# Altium schematic symbol library ANALOG_SWITCH(1.8-5V,1-1, 3Ohm, SPST, SOT23-6).SchLib: 1 symbol
Pins are listed as number, name and electrical type; pins without a type are passive.

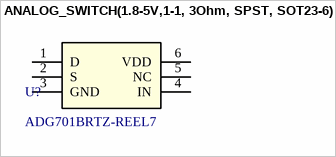
[diagram p0: symbol ANALOG_SWITCH(1.8-5V,1-1, 3Ohm, SPST, SOT23-6)]

## ANALOG_SWITCH(1.8-5V,1-1, 3Ohm, SPST, SOT23-6)
designator U?, comment ADG701BRTZ-REEL7
4 Î©, Low Voltage, Wide Bandwidth Single SPST in 6-ld SOT-23, NC; Manufacturer: Analog Devices Inc; Manufacturer_PN: ADG701BRTZ-REEL7; Package: SOT-23-6; RefDes: https://www.analog.com/media/en/technical-documentation/data-sheets/ADG701_702.pdf; Digikey_Link: https://www.digikey.it/en/products/detail/analog-devices-inc/ADG701BRTZ-REEL7/995213?s=N4IgTCBcDaIAQEEAiBxA7ABgIwCEBKAKgFoC0eAouQDJogC6AvkA
footprint RJ_6_ADI
pins: 1 D, 2 S, 3 GND, 4 IN, 5 NC (power), 6 VDD